# Altium footprint library WE-HCF.PcbLib: 5 footprints
Each footprint in its own frame and in the unit in brackets; x right, y up, seen from the top. Pads: shape width x height; smd on the part's side, far side on the other; paste and mask are expansions set on the pad; w line width, h text height; cw(c..) or ccw(c..) is an arc to the next point about the centre after c.
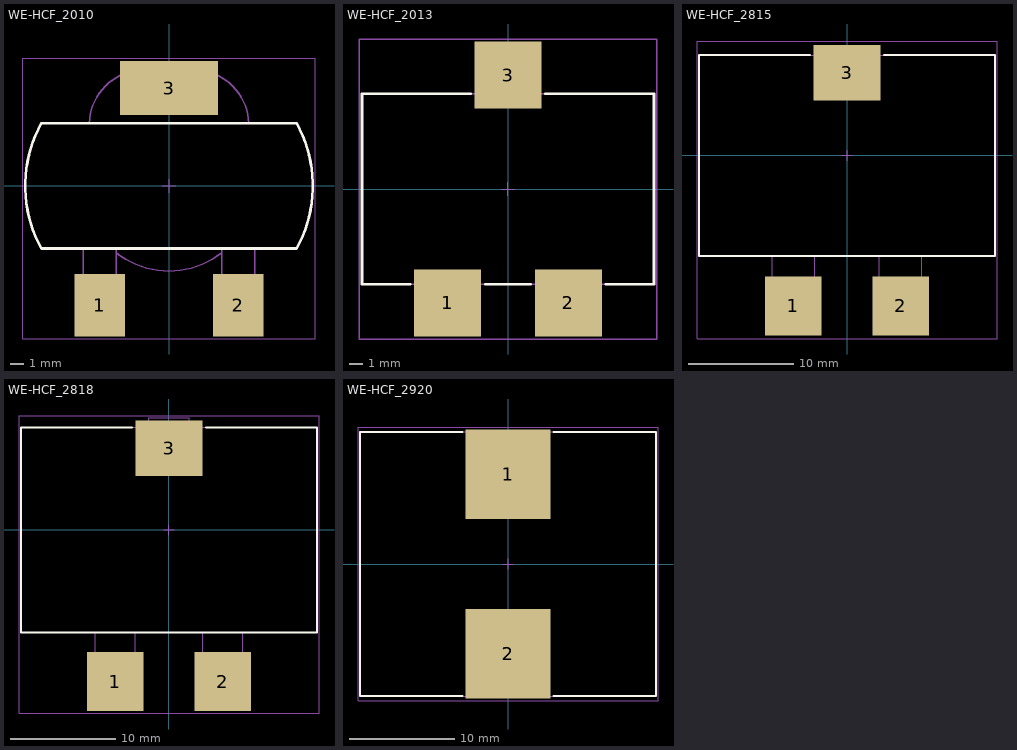
[diagram p0: the footprints below, top view; thin cyan lines are the x and y axes]

## WE-HCF_2010 [mm]
height 9.4
pads (3):
  rect 3.81x4.7 smd: 1(-5.21,-8.96) 2(5.2,-8.96)
  rect 7.37x4.06 smd: 3(0,7.36)
Top Overlay:
  lines w0.2: -9.59,-4.7 cw(c-1.147,0) -9.59,4.7 9.59,4.7 cw(c1.147,0) 9.59,-4.7 -9.59,-4.7
Top Designator:
  text ".Designator" at -7.498,-0.5 h1.5
Top Component Outline:
  lines w0.1: -6.46,-4.7 -6.46,-9.95 -3.96,-9.95 -3.96,-4.7 ; -6,4.7 cw(c-1.8,4.55) -1.65,8.75 1.65,8.75 cw(c1.8,4.55) 6,4.7 ; -3.96,-5.032 ccw(c-0.005,0) 3.951,-5.031 ; 3.95,-4.7 3.95,-9.95 6.45,-9.95 6.45,-4.7 ; -9.59,-4.7 cw(c-1.147,0) -9.59,4.7 9.59,4.7 cw(c1.147,0) 9.59,-4.7 -9.59,-4.7
Top 3D Body:
  lines w0.1: -6.46,-4.7 -6.46,-9.95 -3.96,-9.95 -3.96,-4.7 ; -6,4.7 cw(c-1.8,4.55) -1.65,8.75 1.65,8.75 cw(c1.8,4.55) 6,4.7 ; -3.96,-5.032 ccw(c-0.005,0) 3.951,-5.031 ; 3.95,-4.7 3.95,-9.95 6.45,-9.95 6.45,-4.7 ; -9.59,-4.7 cw(c-1.147,0) -9.59,4.7 9.59,4.7 cw(c1.147,0) 9.59,-4.7 -9.59,-4.7
Top Courtyard:
  lines w0.05: -11.01,-11.51 11.01,-11.51 11.01,9.59 -11.01,9.59 -11.01,-11.51
Top Component Center:
  lines w0.05: -0.5,0 0.5,0 ; 0,-0.5 0,0.5
3D body "IndHCF_2010_7443642010xxx.stp": height 9.42, standoff -0.02, extent -10.81,-9.95 10.81,8.754

## WE-HCF_2013 [mm] "SMD High Current Inductor, body 21.8x14.2mm"
height 14.5
pads (3):
  rect 5x5 smd: 1(-4.5,-8.5) 2(4.5,-8.5) 3(0,8.5)
Top Overlay:
  lines w0.2: -7.3,-7.1 -10.9,-7.1 -10.9,7.1 -2.8,7.1 ; -1.7,-7.1 1.7,-7.1 ; 2.8,7.1 10.9,7.1 10.9,-7.1 7.3,-7.1
Top Designator:
  text ".Designator" at -7.498,-0.5 h1.5
Top Component Outline:
  lines w0.1: -5.75,-7.1 -5.75,-10.6 -3.25,-10.6 -3.25,-7.1 ; -1.25,7.1 -1.25,10.4 1.25,10.4 1.25,7.1 ; 3.25,-7.1 3.25,-10.6 5.75,-10.6 5.75,-7.1 ; -10.9,-7.1 10.9,-7.1 10.9,7.1 -10.9,7.1 -10.9,-7.1
Top 3D Body:
  lines w0.1: -5.75,-7.1 -5.75,-10.6 -3.25,-10.6 -3.25,-7.1 ; -1.25,7.1 -1.25,10.4 1.25,10.4 1.25,7.1 ; 3.25,-7.1 3.25,-10.6 5.75,-10.6 5.75,-7.1 ; -10.9,-7.1 -10.9,7.1 10.9,7.1 10.9,-7.1 -10.9,-7.1
Top Courtyard:
  lines w0.1: -11.1,-11.2 11.1,-11.2 11.1,11.2 -11.1,11.2 -11.1,-11.2
Top Component Center:
  lines w0.05: -0.5,0 0.5,0 ; 0,-0.5 0,0.5
3D body "STEP-WE-HCF-2013-rev1.stp": height 14.05, standoff 0.05, extent -10.75,-10.6 10.75,10.4

## WE-HCF_2815 [mm] "SMD High Current Inductor, body 28x19.4mm"
height 15.4
pads (3):
  rect 5.33x5.59 smd: 1(-5.075,-14.245) 2(5.075,-14.245)
  rect 6.35x5.28 smd: 3(0,7.83)
Top Overlay:
  lines w0.2: -3.5,9.5 -14,9.5 -14,-9.5 14,-9.5 14,9.5 3.5,9.5
Top Designator:
  text ".Designator" at -7.498,-0.5 h1.5
Top Component Outline:
  lines w0.1: -7.075,-9.5 -7.075,-16.2 -3.075,-16.2 -3.075,-9.5 ; -1.5,9.5 -1.5,10.1 1.5,10.1 1.5,9.5 ; 3.075,-9.5 3.075,-16.2 7.075,-16.2 7.075,-9.5 ; -14,-9.5 14,-9.5 14,9.5 -14,9.5 -14,-9.5
Top 3D Body:
  lines w0.1: -7.075,-9.5 -7.075,-16.2 -3.075,-16.2 -3.075,-9.5 ; -1.5,9.5 -1.5,10.1 1.5,10.1 1.5,9.5 ; 3.075,-9.5 3.075,-16.2 7.075,-16.2 7.075,-9.5 ; -14,-9.5 -14,9.5 14,9.5 14,-9.5 -14,-9.5
Top Courtyard:
  lines w0.1: -14.2,-17.35 -14.2,10.8 14.2,10.8 14.2,-17.35 -14.2,-17.35
Top Component Center:
  lines w0.05: -0.5,0 0.5,0 ; 0,-0.5 0,0.5
3D body "7443641xxxx.stp": height 15.14, standoff 0.04, extent -13.65,-16.2 13.65,10.1

## WE-HCF_2818 [mm] "SMD High Current Inductor, body 28x19.4mm"
height 18.5
pads (3):
  rect 5.33x5.59 smd: 1(-5.075,-14.355) 2(5.075,-14.355)
  rect 6.35x5.28 smd: 3(0,7.72)
Top Overlay:
  lines w0.2: -3.5,9.7 -14,9.7 -14,-9.7 14,-9.7 14,9.7 3.5,9.7
Top Designator:
  text ".Designator" at -7.498,-0.5 h1.5
Top Component Outline:
  lines w0.1: -6.975,-9.7 -6.975,-16.4 -3.175,-16.4 -3.175,-9.7 ; -1.9,9.7 -1.9,10.6 1.9,10.6 1.9,9.7 ; 3.175,-9.7 3.175,-16.4 6.975,-16.4 6.975,-9.7 ; -14,-9.7 -14,9.7 14,9.7 14,-9.7 -14,-9.7
Top 3D Body:
  lines w0.1: -6.975,-9.7 -6.975,-16.4 -3.175,-16.4 -3.175,-9.7 ; -1.9,9.7 -1.9,10.6 1.9,10.6 1.9,9.7 ; 3.175,-9.7 3.175,-16.4 6.975,-16.4 6.975,-9.7 ; -14,-9.7 14,-9.7 14,9.7 -14,9.7 -14,-9.7
Top Courtyard:
  lines w0.1: -14.2,-17.35 14.2,-17.35 14.2,10.8 -14.2,10.8 -14.2,-17.35
Top Component Center:
  lines w0.05: -0.5,0 0.5,0 ; 0,-0.5 0,0.5
3D body "744364xxxx.stp": height 18.55, standoff 0.03, extent -14,-16.4 14,10.6

## WE-HCF_2920 [mm] "SMD High Current Inductor, body 28x25mm"
height 20.5
pads (2):
  rect 8x8.5 smd: 1(0,8.5) 2(0,-8.5)
Top Overlay:
  lines w0.2: -4.3,-12.5 -14,-12.5 -14,12.5 -4.3,12.5 ; 4.3,-12.5 14,-12.5 14,12.5 4.3,12.5
Top Designator:
  text ".Designator" at -7.498,-0.5 h1.5
Top Component Outline:
  lines w0.1: -14,-12.5 14,-12.5 14,12.5 -14,12.5 -14,-12.5
Top 3D Body:
  lines w0.1: -14,-12.5 -14,12.5 14,12.5 14,-12.5 -14,-12.5
Top Courtyard:
  lines w0.1: -14.2,-12.95 -14.2,12.95 14.2,12.95 14.2,-12.95 -14.2,-12.95
Top Component Center:
  lines w0.05: -0.5,0 0.5,0 ; 0,-0.5 0,0.5
3D body "74437429203xxx.stp": height 20, standoff 0, extent -13.65,-11.548 13.65,11.548